# EAGLE library part 90814-0808 (library molex)
CONN HEADER 8POS 1.27MM SMD TIN
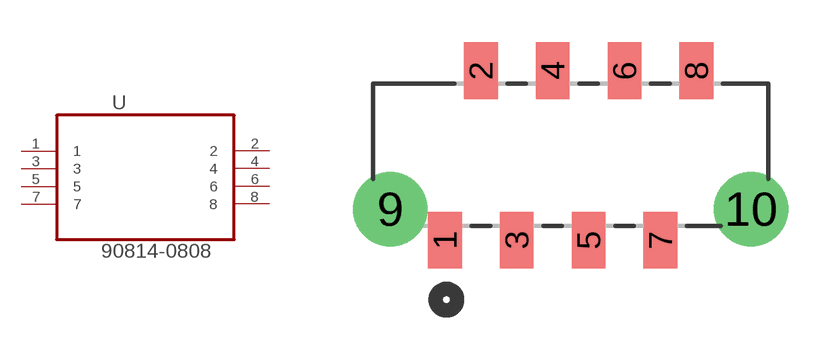
[diagram p59: symbol with the pads of MOLEX_90814-0808; footprint MOLEX_90814-0808]

Designator prefix U

## 90814-0808 (MPN: 90814-0808; OC_FARNELL: 1518211; OC_NEWARK: 74M7855; PACKAGE: CONN-8POS; SUPPLIER: Molex)  [MOLEX_90814-0808]
1  1  pas
2  2  pas
3  3  pas
4  4  pas
5  5  pas
6  6  pas
7  7  pas
8  8  pas

## Footprint MOLEX_90814-0808 (pad centres in mm)
smd 1.194 x 2.007: 1 0,0; 2 1.27,5.994; 3 2.54,0; 4 3.81,5.994; 5 5.08,0; 6 6.35,5.994; 7 7.62,0; 8 8.89,5.994
drill 1.753: 9 -1.93,1.092; 10 10.82,1.092